# Altium schematic symbol library Schematic_IC_Memory.SchLib: 1 symbol
Pins are listed as number, name and electrical type; pins without a type are passive.

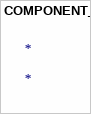
[diagram p0: symbol COMPONENT_1]

## COMPONENT_1
designator *